# Altium footprint library Data_logger.PcbLib: 66 footprints (part 5 of 5)
Each footprint in its own frame and in the unit in brackets; x right, y up, seen from the top. Pads: shape width x height; smd on the part's side, far side on the other; paste and mask are expansions set on the pad; w line width, h text height; cw(c..) or ccw(c..) is an arc to the next point about the centre after c.
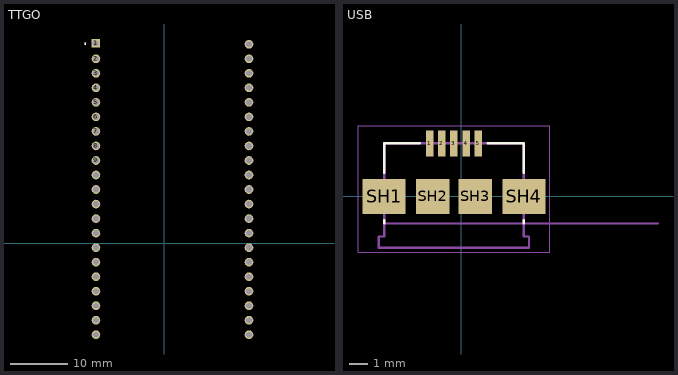
[diagram p4: the footprints below, top view; thin cyan lines are the x and y axes]

## TTGO [mm]
pads (42):
  rect 1.508x1.508 hole 1: 1(-12.05,34.998)
  round 1.508 hole 1: 2(-11.985,32.278) 3(-11.985,29.738) 4(-11.985,27.198) 5(-11.985,24.658) 6(-11.985,22.118) 7(-11.985,19.578) 8(-11.985,17.038) 9(-11.985,14.498) 10(-11.985,11.958) 11(-11.985,9.418) 12(-11.985,6.878) 13(-11.985,4.338) 14(-11.985,1.798) 15(-11.985,-0.742) 16(-11.985,-3.282) 17(-11.985,-5.822) 18(-11.985,-8.362) 19(-11.985,-10.902) 20(-11.985,-13.442) 21(-11.985,-15.982) 22(14.785,-15.982) 23(14.785,-13.442) 24(14.785,-10.902) 25(14.785,-8.362) 26(14.785,-5.822) 27(14.785,-3.282) 28(14.785,-0.742) 29(14.785,1.798) 30(14.785,4.338) 31(14.785,6.878) 32(14.785,9.418) 33(14.785,11.958) 34(14.785,14.498) 35(14.785,17.038) 36(14.785,19.578) 37(14.785,22.118) 38(14.785,24.658) 39(14.785,27.198) 40(14.785,29.738) 41(14.785,32.278) 42(14.785,34.818)
Top Overlay:
  circle w0.2: c-13.855,34.893 r0.1
Top 3D Body:
  circle w0.2: c-13.855,34.893 r0.1
3D body "CES-121-01-T-S.stp": height 5.08, standoff -3.25, extent -13.448,-17.25 -10.4,36.09
3D body "CES-121-01-T-S.stp": height 5.08, standoff -3.25, extent 13.226,-17.34 16.274,36

## USB [mm]
pads (9):
  rect 0.4x1.4 smd: 1(-1.681,2.85) 2(-1.031,2.85) 3(-0.381,2.85) 4(0.269,2.85) 5(0.919,2.85)
  rect 2.3x1.9 smd: SH1(-4.131,0) SH4(3.369,0)
  rect 1.8x1.9 smd: SH2(-1.531,0) SH3(0.769,0)
Top Overlay:
  lines w0.127: -4.131,-1.45 -4.131,-1.27 ; -4.131,1.27 -4.131,2.85 -2.201,2.85 ; 1.439,2.85 3.369,2.85 3.369,1.27 ; 3.369,-1.45 3.369,-1.27
Top 3D Body:
  lines w0.127: 10.569,-1.45 3.369,-1.45 ; -4.131,-1.45 3.369,-1.45 ; -4.131,-1.45 -4.131,-2.15 -4.411,-2.15 -4.411,-2.75 3.649,-2.75 3.649,-2.15 3.369,-2.15 3.369,-1.45 ; -4.131,-1.45 -4.131,2.85 3.369,2.85 3.369,-1.45
  text "PCB Edge" at 4.969,-1.25 h1
Top Courtyard:
  lines w0.05: -5.531,-3 4.769,-3 4.769,3.8 -5.531,3.8 -5.531,-3
3D body "step_temp.STEP": height 2.77, standoff -0.26, extent -4.42,-2.405 3.658,3.159